# EAGLE library part PAM8012MOD (library ytani1)
PAM8012使用2W D級アンプモジュール 超小型ながら最大2ワットの出力が可能なD級アンプモジュールです。ピン取り付け穴が長穴加工となっていますので、電線のハンダ付けがし易くなっています。差動入力型ですが、IN-をGNDに接続することでシングルエンド入力としても使用できます。
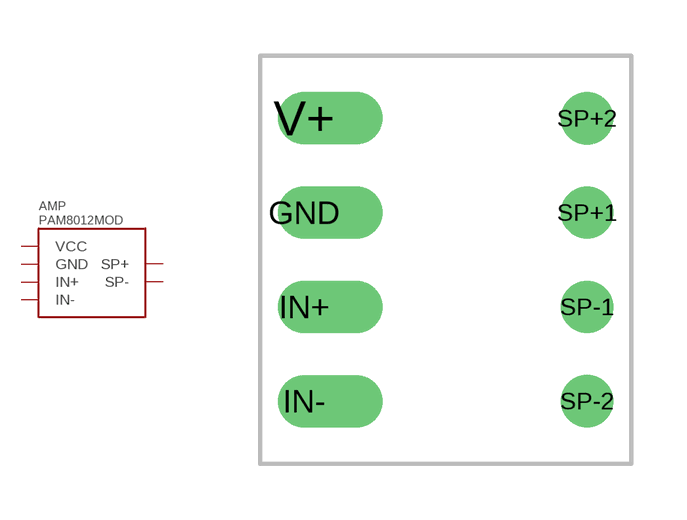
[diagram p0: symbol with the pads of PAM8012MOD; footprint PAM8012MOD]

Designator prefix AMP

## PAM8012MOD (VCC: 2.5V-5.5V)  [PAM8012MOD]
GND  GND
IN+  IN+
IN-  IN-
SP+1  SP+
SP+2  SP+
SP-1  SP-
SP-2  SP-
V+  VCC

## Footprint PAM8012MOD (pad centres in mm)
drill 0.9 offset: GND -3.81,1.27; IN+ -3.81,-1.27; IN- -3.81,-3.81; V+ -3.81,3.81
drill 0.9: SP+1 3.81,1.27; SP+2 3.81,3.81; SP-1 3.81,-1.27; SP-2 3.81,-3.81